# Altium footprint library Connector_FFC-FPC.PcbLib: 372 footprints (part 1 of 24)
Each footprint in its own frame and in the unit in brackets; x right, y up, seen from the top. Pads: shape width x height; smd on the part's side, far side on the other; paste and mask are expansions set on the pad; w line width, h text height; cw(c..) or ccw(c..) is an arc to the next point about the centre after c.
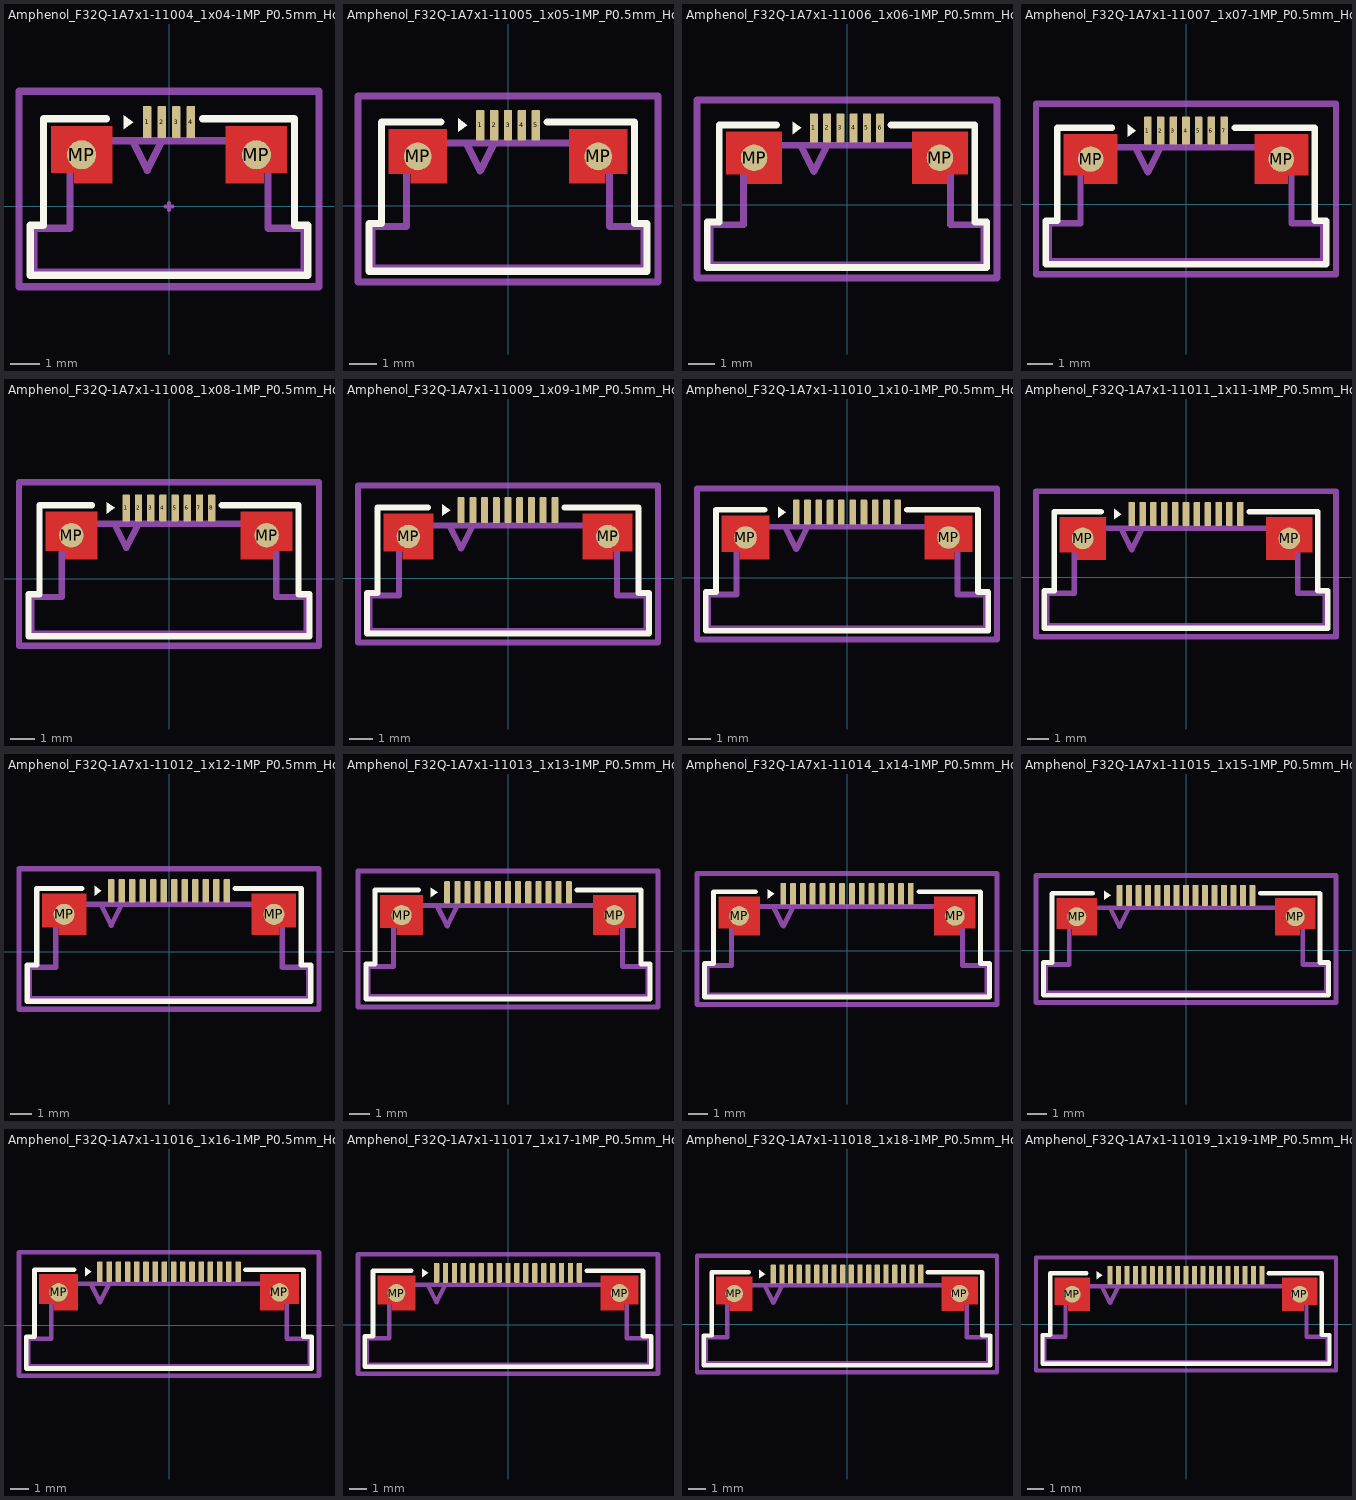
[diagram p0: the footprints below, top view; thin cyan lines are the x and y axes]

## Amphenol_F32Q-1A7x1-11004_1x04-1MP_P0.5mm_Horizontal [mm]
pads (6):
  rrect25% 0.3x1.1 smd: 1(-0.75,2.9) 2(-0.25,2.9) 3(0.25,2.9) 4(0.75,2.9)
  round 1 smd: MP(-3,1.775) MP(3,1.775)
F.Cu:
  region: 4.05,1.15 3.25,1.15 3.25,0.8 1.95,0.8 1.95,2.75 4.05,2.75
  region: -1.95,0.8 -3.25,0.8 -3.25,1.15 -4.05,1.15 -4.05,2.75 -1.95,2.75
F.SilkS:
  region: -1.22,2.9 -1.55,2.66 -1.55,3.14
  lines w0.254: -2.16,3.01 -4.31,3.01 -4.31,-0.64 -4.76,-0.64 -4.76,-2.36 4.76,-2.36 4.76,-0.64 4.31,-0.64 4.31,3.01 1.16,3.01
F.Paste:
  region: 4.05,1.15 3.25,1.15 3.25,0.8 1.95,0.8 1.95,2.75 4.05,2.75
  region: -1.95,0.8 -3.25,0.8 -3.25,1.15 -4.05,1.15 -4.05,2.75 -1.95,2.75
F.Mask:
  region: 4.05,1.15 3.25,1.15 3.25,0.8 1.95,0.8 1.95,2.75 4.05,2.75
  region: -1.95,0.8 -3.25,0.8 -3.25,1.15 -4.05,1.15 -4.05,2.75 -1.95,2.75
Top Component Center:
  lines w0.127: -0.127,0 0.127,0 ; 0,-0.127 0,0.127
Top Assembly:
  lines w0.254: -1.25,2.25 -0.75,1.25 -0.25,2.25 ; -4.65,-2.25 4.65,-2.25 4.65,-0.75 3.4,-0.75 3.4,2.25 -3.4,2.25 -3.4,-0.75 -4.65,-0.75 -4.65,-2.25
  text "'.Designator'" at -4.047,-0.84 h1
Top Courtyard:
  lines w0.254: -5.15,-2.75 5.15,-2.75 5.15,3.95 -5.15,3.95 -5.15,-2.75
Top Designator:
  text ".Designator" at -7.618,0.092 h1.52

## Amphenol_F32Q-1A7x1-11005_1x05-1MP_P0.5mm_Horizontal [mm]
pads (7):
  rrect25% 0.3x1.1 smd: 1(-1,2.9) 2(-0.5,2.9) 3(0,2.9) 4(0.5,2.9) 5(1,2.9)
  round 1 smd: MP(-3.25,1.775) MP(3.25,1.775)
F.Cu:
  region: 4.3,1.15 3.5,1.15 3.5,0.8 2.2,0.8 2.2,2.75 4.3,2.75
  region: -2.2,0.8 -3.5,0.8 -3.5,1.15 -4.3,1.15 -4.3,2.75 -2.2,2.75
F.SilkS:
  region: -1.47,2.9 -1.8,2.66 -1.8,3.14
  lines w0.254: -2.41,3.01 -4.56,3.01 -4.56,-0.64 -5.01,-0.64 -5.01,-2.36 5.01,-2.36 5.01,-0.64 4.56,-0.64 4.56,3.01 1.41,3.01
F.Paste:
  region: 4.3,1.15 3.5,1.15 3.5,0.8 2.2,0.8 2.2,2.75 4.3,2.75
  region: -2.2,0.8 -3.5,0.8 -3.5,1.15 -4.3,1.15 -4.3,2.75 -2.2,2.75
F.Mask:
  region: 4.3,1.15 3.5,1.15 3.5,0.8 2.2,0.8 2.2,2.75 4.3,2.75
  region: -2.2,0.8 -3.5,0.8 -3.5,1.15 -4.3,1.15 -4.3,2.75 -2.2,2.75
Top Assembly:
  lines w0.254: -1.5,2.25 -1,1.25 -0.5,2.25 ; -4.9,-2.25 4.9,-2.25 4.9,-0.75 3.65,-0.75 3.65,2.25 -3.65,2.25 -3.65,-0.75 -4.9,-0.75 -4.9,-2.25
  text "'.Designator'" at -4.047,-0.84 h1
Top Courtyard:
  lines w0.254: -5.4,-2.75 5.4,-2.75 5.4,3.95 -5.4,3.95 -5.4,-2.75
Top Designator:
  text ".Designator" at -7.618,0.092 h1.52

## Amphenol_F32Q-1A7x1-11006_1x06-1MP_P0.5mm_Horizontal [mm]
pads (8):
  rrect25% 0.3x1.1 smd: 1(-1.25,2.9) 2(-0.75,2.9) 3(-0.25,2.9) 4(0.25,2.9) 5(0.75,2.9) 6(1.25,2.9)
  round 1 smd: MP(-3.5,1.775) MP(3.5,1.775)
F.Cu:
  region: 4.55,1.15 3.75,1.15 3.75,0.8 2.45,0.8 2.45,2.75 4.55,2.75
  region: -2.45,0.8 -3.75,0.8 -3.75,1.15 -4.55,1.15 -4.55,2.75 -2.45,2.75
F.SilkS:
  region: -1.72,2.9 -2.05,2.66 -2.05,3.14
  lines w0.254: -2.66,3.01 -4.81,3.01 -4.81,-0.64 -5.26,-0.64 -5.26,-2.36 5.26,-2.36 5.26,-0.64 4.81,-0.64 4.81,3.01 1.66,3.01
F.Paste:
  region: 4.55,1.15 3.75,1.15 3.75,0.8 2.45,0.8 2.45,2.75 4.55,2.75
  region: -2.45,0.8 -3.75,0.8 -3.75,1.15 -4.55,1.15 -4.55,2.75 -2.45,2.75
F.Mask:
  region: 4.55,1.15 3.75,1.15 3.75,0.8 2.45,0.8 2.45,2.75 4.55,2.75
  region: -2.45,0.8 -3.75,0.8 -3.75,1.15 -4.55,1.15 -4.55,2.75 -2.45,2.75
Top Assembly:
  lines w0.254: -1.75,2.25 -1.25,1.25 -0.75,2.25 ; -5.15,-2.25 5.15,-2.25 5.15,-0.75 3.9,-0.75 3.9,2.25 -3.9,2.25 -3.9,-0.75 -5.15,-0.75 -5.15,-2.25
  text "'.Designator'" at -4.047,-0.84 h1
Top Courtyard:
  lines w0.254: -5.65,-2.75 5.65,-2.75 5.65,3.95 -5.65,3.95 -5.65,-2.75
Top Designator:
  text ".Designator" at -7.618,0.092 h1.52

## Amphenol_F32Q-1A7x1-11007_1x07-1MP_P0.5mm_Horizontal [mm]
pads (9):
  rrect25% 0.3x1.1 smd: 1(-1.5,2.9) 2(-1,2.9) 3(-0.5,2.9) 4(0,2.9) 5(0.5,2.9) 6(1,2.9) 7(1.5,2.9)
  round 1 smd: MP(-3.75,1.775) MP(3.75,1.775)
F.Cu:
  region: 4.8,1.15 4,1.15 4,0.8 2.7,0.8 2.7,2.75 4.8,2.75
  region: -2.7,0.8 -4,0.8 -4,1.15 -4.8,1.15 -4.8,2.75 -2.7,2.75
F.SilkS:
  region: -1.97,2.9 -2.3,2.66 -2.3,3.14
  lines w0.254: -2.91,3.01 -5.06,3.01 -5.06,-0.64 -5.51,-0.64 -5.51,-2.36 5.51,-2.36 5.51,-0.64 5.06,-0.64 5.06,3.01 1.91,3.01
F.Paste:
  region: 4.8,1.15 4,1.15 4,0.8 2.7,0.8 2.7,2.75 4.8,2.75
  region: -2.7,0.8 -4,0.8 -4,1.15 -4.8,1.15 -4.8,2.75 -2.7,2.75
F.Mask:
  region: 4.8,1.15 4,1.15 4,0.8 2.7,0.8 2.7,2.75 4.8,2.75
  region: -2.7,0.8 -4,0.8 -4,1.15 -4.8,1.15 -4.8,2.75 -2.7,2.75
Top Assembly:
  lines w0.254: -2,2.25 -1.5,1.25 -1,2.25 ; -5.4,-2.25 5.4,-2.25 5.4,-0.75 4.15,-0.75 4.15,2.25 -4.15,2.25 -4.15,-0.75 -5.4,-0.75 -5.4,-2.25
  text "'.Designator'" at -4.047,-0.84 h1
Top Courtyard:
  lines w0.254: -5.9,-2.75 5.9,-2.75 5.9,3.95 -5.9,3.95 -5.9,-2.75
Top Designator:
  text ".Designator" at -7.618,0.092 h1.52

## Amphenol_F32Q-1A7x1-11008_1x08-1MP_P0.5mm_Horizontal [mm]
pads (10):
  rrect25% 0.3x1.1 smd: 1(-1.75,2.9) 2(-1.25,2.9) 3(-0.75,2.9) 4(-0.25,2.9) 5(0.25,2.9) 6(0.75,2.9) 7(1.25,2.9) 8(1.75,2.9)
  round 1 smd: MP(-4,1.775) MP(4,1.775)
F.Cu:
  region: 5.05,1.15 4.25,1.15 4.25,0.8 2.95,0.8 2.95,2.75 5.05,2.75
  region: -2.95,0.8 -4.25,0.8 -4.25,1.15 -5.05,1.15 -5.05,2.75 -2.95,2.75
F.SilkS:
  region: -2.22,2.9 -2.55,2.66 -2.55,3.14
  lines w0.254: -3.16,3.01 -5.31,3.01 -5.31,-0.64 -5.76,-0.64 -5.76,-2.36 5.76,-2.36 5.76,-0.64 5.31,-0.64 5.31,3.01 2.16,3.01
F.Paste:
  region: 5.05,1.15 4.25,1.15 4.25,0.8 2.95,0.8 2.95,2.75 5.05,2.75
  region: -2.95,0.8 -4.25,0.8 -4.25,1.15 -5.05,1.15 -5.05,2.75 -2.95,2.75
F.Mask:
  region: 5.05,1.15 4.25,1.15 4.25,0.8 2.95,0.8 2.95,2.75 5.05,2.75
  region: -2.95,0.8 -4.25,0.8 -4.25,1.15 -5.05,1.15 -5.05,2.75 -2.95,2.75
Top Assembly:
  lines w0.254: -2.25,2.25 -1.75,1.25 -1.25,2.25 ; -5.65,-2.25 5.65,-2.25 5.65,-0.75 4.4,-0.75 4.4,2.25 -4.4,2.25 -4.4,-0.75 -5.65,-0.75 -5.65,-2.25
  text "'.Designator'" at -4.047,-0.84 h1
Top Courtyard:
  lines w0.254: -6.15,-2.75 6.15,-2.75 6.15,3.95 -6.15,3.95 -6.15,-2.75
Top Designator:
  text ".Designator" at -7.618,0.092 h1.52

## Amphenol_F32Q-1A7x1-11009_1x09-1MP_P0.5mm_Horizontal [mm]
pads (11):
  rrect25% 0.3x1.1 smd: 1(-2,2.9) 2(-1.5,2.9) 3(-1,2.9) 4(-0.5,2.9) 5(0,2.9) 6(0.5,2.9) 7(1,2.9) 8(1.5,2.9) 9(2,2.9)
  round 1 smd: MP(-4.25,1.775) MP(4.25,1.775)
F.Cu:
  region: 5.3,1.15 4.5,1.15 4.5,0.8 3.2,0.8 3.2,2.75 5.3,2.75
  region: -3.2,0.8 -4.5,0.8 -4.5,1.15 -5.3,1.15 -5.3,2.75 -3.2,2.75
F.SilkS:
  region: -2.47,2.9 -2.8,2.66 -2.8,3.14
  lines w0.254: -3.41,3.01 -5.56,3.01 -5.56,-0.64 -6.01,-0.64 -6.01,-2.36 6.01,-2.36 6.01,-0.64 5.56,-0.64 5.56,3.01 2.41,3.01
F.Paste:
  region: 5.3,1.15 4.5,1.15 4.5,0.8 3.2,0.8 3.2,2.75 5.3,2.75
  region: -3.2,0.8 -4.5,0.8 -4.5,1.15 -5.3,1.15 -5.3,2.75 -3.2,2.75
F.Mask:
  region: 5.3,1.15 4.5,1.15 4.5,0.8 3.2,0.8 3.2,2.75 5.3,2.75
  region: -3.2,0.8 -4.5,0.8 -4.5,1.15 -5.3,1.15 -5.3,2.75 -3.2,2.75
Top Assembly:
  lines w0.254: -2.5,2.25 -2,1.25 -1.5,2.25 ; -5.9,-2.25 5.9,-2.25 5.9,-0.75 4.65,-0.75 4.65,2.25 -4.65,2.25 -4.65,-0.75 -5.9,-0.75 -5.9,-2.25
  text "'.Designator'" at -4.047,-0.84 h1
Top Courtyard:
  lines w0.254: -6.4,-2.75 6.4,-2.75 6.4,3.95 -6.4,3.95 -6.4,-2.75
Top Designator:
  text ".Designator" at -7.618,0.092 h1.52

## Amphenol_F32Q-1A7x1-11010_1x10-1MP_P0.5mm_Horizontal [mm]
pads (12):
  rrect25% 0.3x1.1 smd: 1(-2.25,2.9) 2(-1.75,2.9) 3(-1.25,2.9) 4(-0.75,2.9) 5(-0.25,2.9) 6(0.25,2.9) 7(0.75,2.9) 8(1.25,2.9) 9(1.75,2.9) 10(2.25,2.9)
  round 1 smd: MP(-4.5,1.775) MP(4.5,1.775)
F.Cu:
  region: 5.55,1.15 4.75,1.15 4.75,0.8 3.45,0.8 3.45,2.75 5.55,2.75
  region: -3.45,0.8 -4.75,0.8 -4.75,1.15 -5.55,1.15 -5.55,2.75 -3.45,2.75
F.SilkS:
  region: -2.72,2.9 -3.05,2.66 -3.05,3.14
  lines w0.254: -3.66,3.01 -5.81,3.01 -5.81,-0.64 -6.26,-0.64 -6.26,-2.36 6.26,-2.36 6.26,-0.64 5.81,-0.64 5.81,3.01 2.66,3.01
F.Paste:
  region: 5.55,1.15 4.75,1.15 4.75,0.8 3.45,0.8 3.45,2.75 5.55,2.75
  region: -3.45,0.8 -4.75,0.8 -4.75,1.15 -5.55,1.15 -5.55,2.75 -3.45,2.75
F.Mask:
  region: 5.55,1.15 4.75,1.15 4.75,0.8 3.45,0.8 3.45,2.75 5.55,2.75
  region: -3.45,0.8 -4.75,0.8 -4.75,1.15 -5.55,1.15 -5.55,2.75 -3.45,2.75
Top Assembly:
  lines w0.254: -2.75,2.25 -2.25,1.25 -1.75,2.25 ; -6.15,-2.25 6.15,-2.25 6.15,-0.75 4.9,-0.75 4.9,2.25 -4.9,2.25 -4.9,-0.75 -6.15,-0.75 -6.15,-2.25
  text "'.Designator'" at -4.047,-0.84 h1
Top Courtyard:
  lines w0.254: -6.65,-2.75 6.65,-2.75 6.65,3.95 -6.65,3.95 -6.65,-2.75
Top Designator:
  text ".Designator" at -7.618,0.092 h1.52

## Amphenol_F32Q-1A7x1-11011_1x11-1MP_P0.5mm_Horizontal [mm]
pads (13):
  rrect25% 0.3x1.1 smd: 1(-2.5,2.9) 2(-2,2.9) 3(-1.5,2.9) 4(-1,2.9) 5(-0.5,2.9) 6(0,2.9) 7(0.5,2.9) 8(1,2.9) 9(1.5,2.9) 10(2,2.9) 11(2.5,2.9)
  round 1 smd: MP(-4.75,1.775) MP(4.75,1.775)
F.Cu:
  region: 5.8,1.15 5,1.15 5,0.8 3.7,0.8 3.7,2.75 5.8,2.75
  region: -3.7,0.8 -5,0.8 -5,1.15 -5.8,1.15 -5.8,2.75 -3.7,2.75
F.SilkS:
  region: -2.97,2.9 -3.3,2.66 -3.3,3.14
  lines w0.254: -3.91,3.01 -6.06,3.01 -6.06,-0.64 -6.51,-0.64 -6.51,-2.36 6.51,-2.36 6.51,-0.64 6.06,-0.64 6.06,3.01 2.91,3.01
F.Paste:
  region: 5.8,1.15 5,1.15 5,0.8 3.7,0.8 3.7,2.75 5.8,2.75
  region: -3.7,0.8 -5,0.8 -5,1.15 -5.8,1.15 -5.8,2.75 -3.7,2.75
F.Mask:
  region: 5.8,1.15 5,1.15 5,0.8 3.7,0.8 3.7,2.75 5.8,2.75
  region: -3.7,0.8 -5,0.8 -5,1.15 -5.8,1.15 -5.8,2.75 -3.7,2.75
Top Assembly:
  lines w0.254: -3,2.25 -2.5,1.25 -2,2.25 ; -6.4,-2.25 6.4,-2.25 6.4,-0.75 5.15,-0.75 5.15,2.25 -5.15,2.25 -5.15,-0.75 -6.4,-0.75 -6.4,-2.25
  text "'.Designator'" at -4.047,-0.84 h1
Top Courtyard:
  lines w0.254: -6.9,-2.75 6.9,-2.75 6.9,3.95 -6.9,3.95 -6.9,-2.75
Top Designator:
  text ".Designator" at -7.618,0.092 h1.52

## Amphenol_F32Q-1A7x1-11012_1x12-1MP_P0.5mm_Horizontal [mm]
pads (14):
  rrect25% 0.3x1.1 smd: 1(-2.75,2.9) 2(-2.25,2.9) 3(-1.75,2.9) 4(-1.25,2.9) 5(-0.75,2.9) 6(-0.25,2.9) 7(0.25,2.9) 8(0.75,2.9) 9(1.25,2.9) 10(1.75,2.9) 11(2.25,2.9) 12(2.75,2.9)
  round 1 smd: MP(-5,1.775) MP(5,1.775)
F.Cu:
  region: 6.05,1.15 5.25,1.15 5.25,0.8 3.95,0.8 3.95,2.75 6.05,2.75
  region: -3.95,0.8 -5.25,0.8 -5.25,1.15 -6.05,1.15 -6.05,2.75 -3.95,2.75
F.SilkS:
  region: -3.22,2.9 -3.55,2.66 -3.55,3.14
  lines w0.254: -4.16,3.01 -6.31,3.01 -6.31,-0.64 -6.76,-0.64 -6.76,-2.36 6.76,-2.36 6.76,-0.64 6.31,-0.64 6.31,3.01 3.16,3.01
F.Paste:
  region: 6.05,1.15 5.25,1.15 5.25,0.8 3.95,0.8 3.95,2.75 6.05,2.75
  region: -3.95,0.8 -5.25,0.8 -5.25,1.15 -6.05,1.15 -6.05,2.75 -3.95,2.75
F.Mask:
  region: 6.05,1.15 5.25,1.15 5.25,0.8 3.95,0.8 3.95,2.75 6.05,2.75
  region: -3.95,0.8 -5.25,0.8 -5.25,1.15 -6.05,1.15 -6.05,2.75 -3.95,2.75
Top Assembly:
  lines w0.254: -3.25,2.25 -2.75,1.25 -2.25,2.25 ; -6.65,-2.25 6.65,-2.25 6.65,-0.75 5.4,-0.75 5.4,2.25 -5.4,2.25 -5.4,-0.75 -6.65,-0.75 -6.65,-2.25
  text "'.Designator'" at -4.047,-0.84 h1
Top Courtyard:
  lines w0.254: -7.15,-2.75 7.15,-2.75 7.15,3.95 -7.15,3.95 -7.15,-2.75
Top Designator:
  text ".Designator" at -7.618,0.092 h1.52

## Amphenol_F32Q-1A7x1-11013_1x13-1MP_P0.5mm_Horizontal [mm]
pads (15):
  rrect25% 0.3x1.1 smd: 1(-3,2.9) 2(-2.5,2.9) 3(-2,2.9) 4(-1.5,2.9) 5(-1,2.9) 6(-0.5,2.9) 7(0,2.9) 8(0.5,2.9) 9(1,2.9) 10(1.5,2.9) 11(2,2.9) 12(2.5,2.9) 13(3,2.9)
  round 1 smd: MP(-5.25,1.775) MP(5.25,1.775)
F.Cu:
  region: 6.3,1.15 5.5,1.15 5.5,0.8 4.2,0.8 4.2,2.75 6.3,2.75
  region: -4.2,0.8 -5.5,0.8 -5.5,1.15 -6.3,1.15 -6.3,2.75 -4.2,2.75
F.SilkS:
  region: -3.47,2.9 -3.8,2.66 -3.8,3.14
  lines w0.254: -4.41,3.01 -6.56,3.01 -6.56,-0.64 -7.01,-0.64 -7.01,-2.36 7.01,-2.36 7.01,-0.64 6.56,-0.64 6.56,3.01 3.41,3.01
F.Paste:
  region: 6.3,1.15 5.5,1.15 5.5,0.8 4.2,0.8 4.2,2.75 6.3,2.75
  region: -4.2,0.8 -5.5,0.8 -5.5,1.15 -6.3,1.15 -6.3,2.75 -4.2,2.75
F.Mask:
  region: 6.3,1.15 5.5,1.15 5.5,0.8 4.2,0.8 4.2,2.75 6.3,2.75
  region: -4.2,0.8 -5.5,0.8 -5.5,1.15 -6.3,1.15 -6.3,2.75 -4.2,2.75
Top Assembly:
  lines w0.254: -3.5,2.25 -3,1.25 -2.5,2.25 ; -6.9,-2.25 6.9,-2.25 6.9,-0.75 5.65,-0.75 5.65,2.25 -5.65,2.25 -5.65,-0.75 -6.9,-0.75 -6.9,-2.25
  text "'.Designator'" at -4.047,-0.84 h1
Top Courtyard:
  lines w0.254: -7.4,-2.75 7.4,-2.75 7.4,3.95 -7.4,3.95 -7.4,-2.75
Top Designator:
  text ".Designator" at -7.618,0.092 h1.52

## Amphenol_F32Q-1A7x1-11014_1x14-1MP_P0.5mm_Horizontal [mm]
pads (16):
  rrect25% 0.3x1.1 smd: 1(-3.25,2.9) 2(-2.75,2.9) 3(-2.25,2.9) 4(-1.75,2.9) 5(-1.25,2.9) 6(-0.75,2.9) 7(-0.25,2.9) 8(0.25,2.9) 9(0.75,2.9) 10(1.25,2.9) 11(1.75,2.9) 12(2.25,2.9) 13(2.75,2.9) 14(3.25,2.9)
  round 1 smd: MP(-5.5,1.775) MP(5.5,1.775)
F.Cu:
  region: 6.55,1.15 5.75,1.15 5.75,0.8 4.45,0.8 4.45,2.75 6.55,2.75
  region: -4.45,0.8 -5.75,0.8 -5.75,1.15 -6.55,1.15 -6.55,2.75 -4.45,2.75
F.SilkS:
  region: -3.72,2.9 -4.05,2.66 -4.05,3.14
  lines w0.254: -4.66,3.01 -6.81,3.01 -6.81,-0.64 -7.26,-0.64 -7.26,-2.36 7.26,-2.36 7.26,-0.64 6.81,-0.64 6.81,3.01 3.66,3.01
F.Paste:
  region: 6.55,1.15 5.75,1.15 5.75,0.8 4.45,0.8 4.45,2.75 6.55,2.75
  region: -4.45,0.8 -5.75,0.8 -5.75,1.15 -6.55,1.15 -6.55,2.75 -4.45,2.75
F.Mask:
  region: 6.55,1.15 5.75,1.15 5.75,0.8 4.45,0.8 4.45,2.75 6.55,2.75
  region: -4.45,0.8 -5.75,0.8 -5.75,1.15 -6.55,1.15 -6.55,2.75 -4.45,2.75
Top Assembly:
  lines w0.254: -3.75,2.25 -3.25,1.25 -2.75,2.25 ; -7.15,-2.25 7.15,-2.25 7.15,-0.75 5.9,-0.75 5.9,2.25 -5.9,2.25 -5.9,-0.75 -7.15,-0.75 -7.15,-2.25
  text "'.Designator'" at -4.047,-0.84 h1
Top Courtyard:
  lines w0.254: -7.65,-2.75 7.65,-2.75 7.65,3.95 -7.65,3.95 -7.65,-2.75
Top Designator:
  text ".Designator" at -7.618,0.092 h1.52

## Amphenol_F32Q-1A7x1-11015_1x15-1MP_P0.5mm_Horizontal [mm]
pads (17):
  rrect25% 0.3x1.1 smd: 1(-3.5,2.9) 2(-3,2.9) 3(-2.5,2.9) 4(-2,2.9) 5(-1.5,2.9) 6(-1,2.9) 7(-0.5,2.9) 8(0,2.9) 9(0.5,2.9) 10(1,2.9) 11(1.5,2.9) 12(2,2.9) 13(2.5,2.9) 14(3,2.9) 15(3.5,2.9)
  round 1 smd: MP(-5.75,1.775) MP(5.75,1.775)
F.Cu:
  region: 6.8,1.15 6,1.15 6,0.8 4.7,0.8 4.7,2.75 6.8,2.75
  region: -4.7,0.8 -6,0.8 -6,1.15 -6.8,1.15 -6.8,2.75 -4.7,2.75
F.SilkS:
  region: -3.97,2.9 -4.3,2.66 -4.3,3.14
  lines w0.254: -4.91,3.01 -7.06,3.01 -7.06,-0.64 -7.51,-0.64 -7.51,-2.36 7.51,-2.36 7.51,-0.64 7.06,-0.64 7.06,3.01 3.91,3.01
F.Paste:
  region: 6.8,1.15 6,1.15 6,0.8 4.7,0.8 4.7,2.75 6.8,2.75
  region: -4.7,0.8 -6,0.8 -6,1.15 -6.8,1.15 -6.8,2.75 -4.7,2.75
F.Mask:
  region: 6.8,1.15 6,1.15 6,0.8 4.7,0.8 4.7,2.75 6.8,2.75
  region: -4.7,0.8 -6,0.8 -6,1.15 -6.8,1.15 -6.8,2.75 -4.7,2.75
Top Assembly:
  lines w0.254: -4,2.25 -3.5,1.25 -3,2.25 ; -7.4,-2.25 7.4,-2.25 7.4,-0.75 6.15,-0.75 6.15,2.25 -6.15,2.25 -6.15,-0.75 -7.4,-0.75 -7.4,-2.25
  text "'.Designator'" at -4.047,-0.84 h1
Top Courtyard:
  lines w0.254: -7.9,-2.75 7.9,-2.75 7.9,3.95 -7.9,3.95 -7.9,-2.75
Top Designator:
  text ".Designator" at -7.618,0.092 h1.52

## Amphenol_F32Q-1A7x1-11016_1x16-1MP_P0.5mm_Horizontal [mm]
pads (18):
  rrect25% 0.3x1.1 smd: 1(-3.75,2.9) 2(-3.25,2.9) 3(-2.75,2.9) 4(-2.25,2.9) 5(-1.75,2.9) 6(-1.25,2.9) 7(-0.75,2.9) 8(-0.25,2.9) 9(0.25,2.9) 10(0.75,2.9) 11(1.25,2.9) 12(1.75,2.9) 13(2.25,2.9) 14(2.75,2.9) 15(3.25,2.9) 16(3.75,2.9)
  round 1 smd: MP(-6,1.775) MP(6,1.775)
F.Cu:
  region: 7.05,1.15 6.25,1.15 6.25,0.8 4.95,0.8 4.95,2.75 7.05,2.75
  region: -4.95,0.8 -6.25,0.8 -6.25,1.15 -7.05,1.15 -7.05,2.75 -4.95,2.75
F.SilkS:
  region: -4.22,2.9 -4.55,2.66 -4.55,3.14
  lines w0.254: -5.16,3.01 -7.31,3.01 -7.31,-0.64 -7.76,-0.64 -7.76,-2.36 7.76,-2.36 7.76,-0.64 7.31,-0.64 7.31,3.01 4.16,3.01
F.Paste:
  region: 7.05,1.15 6.25,1.15 6.25,0.8 4.95,0.8 4.95,2.75 7.05,2.75
  region: -4.95,0.8 -6.25,0.8 -6.25,1.15 -7.05,1.15 -7.05,2.75 -4.95,2.75
F.Mask:
  region: 7.05,1.15 6.25,1.15 6.25,0.8 4.95,0.8 4.95,2.75 7.05,2.75
  region: -4.95,0.8 -6.25,0.8 -6.25,1.15 -7.05,1.15 -7.05,2.75 -4.95,2.75
Top Assembly:
  lines w0.254: -4.25,2.25 -3.75,1.25 -3.25,2.25 ; -7.65,-2.25 7.65,-2.25 7.65,-0.75 6.4,-0.75 6.4,2.25 -6.4,2.25 -6.4,-0.75 -7.65,-0.75 -7.65,-2.25
  text "'.Designator'" at -4.047,-0.84 h1
Top Courtyard:
  lines w0.254: -8.15,-2.75 8.15,-2.75 8.15,3.95 -8.15,3.95 -8.15,-2.75
Top Designator:
  text ".Designator" at -7.618,0.092 h1.52

## Amphenol_F32Q-1A7x1-11017_1x17-1MP_P0.5mm_Horizontal [mm]
pads (19):
  rrect25% 0.3x1.1 smd: 1(-4,2.9) 2(-3.5,2.9) 3(-3,2.9) 4(-2.5,2.9) 5(-2,2.9) 6(-1.5,2.9) 7(-1,2.9) 8(-0.5,2.9) 9(0,2.9) 10(0.5,2.9) 11(1,2.9) 12(1.5,2.9) 13(2,2.9) 14(2.5,2.9) 15(3,2.9) 16(3.5,2.9) 17(4,2.9)
  round 1 smd: MP(-6.25,1.775) MP(6.25,1.775)
F.Cu:
  region: 7.3,1.15 6.5,1.15 6.5,0.8 5.2,0.8 5.2,2.75 7.3,2.75
  region: -5.2,0.8 -6.5,0.8 -6.5,1.15 -7.3,1.15 -7.3,2.75 -5.2,2.75
F.SilkS:
  region: -4.47,2.9 -4.8,2.66 -4.8,3.14
  lines w0.254: -5.41,3.01 -7.56,3.01 -7.56,-0.64 -8.01,-0.64 -8.01,-2.36 8.01,-2.36 8.01,-0.64 7.56,-0.64 7.56,3.01 4.41,3.01
F.Paste:
  region: 7.3,1.15 6.5,1.15 6.5,0.8 5.2,0.8 5.2,2.75 7.3,2.75
  region: -5.2,0.8 -6.5,0.8 -6.5,1.15 -7.3,1.15 -7.3,2.75 -5.2,2.75
F.Mask:
  region: 7.3,1.15 6.5,1.15 6.5,0.8 5.2,0.8 5.2,2.75 7.3,2.75
  region: -5.2,0.8 -6.5,0.8 -6.5,1.15 -7.3,1.15 -7.3,2.75 -5.2,2.75
Top Assembly:
  lines w0.254: -4.5,2.25 -4,1.25 -3.5,2.25 ; -7.9,-2.25 7.9,-2.25 7.9,-0.75 6.65,-0.75 6.65,2.25 -6.65,2.25 -6.65,-0.75 -7.9,-0.75 -7.9,-2.25
  text "'.Designator'" at -4.047,-0.84 h1
Top Courtyard:
  lines w0.254: -8.4,-2.75 8.4,-2.75 8.4,3.95 -8.4,3.95 -8.4,-2.75
Top Designator:
  text ".Designator" at -7.618,0.092 h1.52

## Amphenol_F32Q-1A7x1-11018_1x18-1MP_P0.5mm_Horizontal [mm]
pads (20):
  rrect25% 0.3x1.1 smd: 1(-4.25,2.9) 2(-3.75,2.9) 3(-3.25,2.9) 4(-2.75,2.9) 5(-2.25,2.9) 6(-1.75,2.9) 7(-1.25,2.9) 8(-0.75,2.9) 9(-0.25,2.9) 10(0.25,2.9) 11(0.75,2.9) 12(1.25,2.9) 13(1.75,2.9) 14(2.25,2.9) 15(2.75,2.9) 16(3.25,2.9) 17(3.75,2.9) 18(4.25,2.9)
  round 1 smd: MP(-6.5,1.775) MP(6.5,1.775)
F.Cu:
  region: 7.55,1.15 6.75,1.15 6.75,0.8 5.45,0.8 5.45,2.75 7.55,2.75
  region: -5.45,0.8 -6.75,0.8 -6.75,1.15 -7.55,1.15 -7.55,2.75 -5.45,2.75
F.SilkS:
  region: -4.72,2.9 -5.05,2.66 -5.05,3.14
  lines w0.254: -5.66,3.01 -7.81,3.01 -7.81,-0.64 -8.26,-0.64 -8.26,-2.36 8.26,-2.36 8.26,-0.64 7.81,-0.64 7.81,3.01 4.66,3.01
F.Paste:
  region: 7.55,1.15 6.75,1.15 6.75,0.8 5.45,0.8 5.45,2.75 7.55,2.75
  region: -5.45,0.8 -6.75,0.8 -6.75,1.15 -7.55,1.15 -7.55,2.75 -5.45,2.75
F.Mask:
  region: 7.55,1.15 6.75,1.15 6.75,0.8 5.45,0.8 5.45,2.75 7.55,2.75
  region: -5.45,0.8 -6.75,0.8 -6.75,1.15 -7.55,1.15 -7.55,2.75 -5.45,2.75
Top Assembly:
  lines w0.254: -4.75,2.25 -4.25,1.25 -3.75,2.25 ; -8.15,-2.25 8.15,-2.25 8.15,-0.75 6.9,-0.75 6.9,2.25 -6.9,2.25 -6.9,-0.75 -8.15,-0.75 -8.15,-2.25
  text "'.Designator'" at -4.047,-0.84 h1
Top Courtyard:
  lines w0.254: -8.65,-2.75 8.65,-2.75 8.65,3.95 -8.65,3.95 -8.65,-2.75
Top Designator:
  text ".Designator" at -7.618,0.092 h1.52

## Amphenol_F32Q-1A7x1-11019_1x19-1MP_P0.5mm_Horizontal [mm]
pads (21):
  rrect25% 0.3x1.1 smd: 1(-4.5,2.9) 2(-4,2.9) 3(-3.5,2.9) 4(-3,2.9) 5(-2.5,2.9) 6(-2,2.9) 7(-1.5,2.9) 8(-1,2.9) 9(-0.5,2.9) 10(0,2.9) 11(0.5,2.9) 12(1,2.9) 13(1.5,2.9) 14(2,2.9) 15(2.5,2.9) 16(3,2.9) 17(3.5,2.9) 18(4,2.9) 19(4.5,2.9)
  round 1 smd: MP(-6.75,1.775) MP(6.75,1.775)
F.Cu:
  region: 7.8,1.15 7,1.15 7,0.8 5.7,0.8 5.7,2.75 7.8,2.75
  region: -5.7,0.8 -7,0.8 -7,1.15 -7.8,1.15 -7.8,2.75 -5.7,2.75
F.SilkS:
  region: -4.97,2.9 -5.3,2.66 -5.3,3.14
  lines w0.254: -5.91,3.01 -8.06,3.01 -8.06,-0.64 -8.51,-0.64 -8.51,-2.36 8.51,-2.36 8.51,-0.64 8.06,-0.64 8.06,3.01 4.91,3.01
F.Paste:
  region: 7.8,1.15 7,1.15 7,0.8 5.7,0.8 5.7,2.75 7.8,2.75
  region: -5.7,0.8 -7,0.8 -7,1.15 -7.8,1.15 -7.8,2.75 -5.7,2.75
F.Mask:
  region: 7.8,1.15 7,1.15 7,0.8 5.7,0.8 5.7,2.75 7.8,2.75
  region: -5.7,0.8 -7,0.8 -7,1.15 -7.8,1.15 -7.8,2.75 -5.7,2.75
Top Assembly:
  lines w0.254: -5,2.25 -4.5,1.25 -4,2.25 ; -8.4,-2.25 8.4,-2.25 8.4,-0.75 7.15,-0.75 7.15,2.25 -7.15,2.25 -7.15,-0.75 -8.4,-0.75 -8.4,-2.25
  text "'.Designator'" at -4.047,-0.84 h1
Top Courtyard:
  lines w0.254: -8.9,-2.75 8.9,-2.75 8.9,3.95 -8.9,3.95 -8.9,-2.75
Top Designator:
  text ".Designator" at -7.618,0.092 h1.52